# Altium schematic symbol library FS8205.Schlib: 1 symbol
Pins are listed as number, name and electrical type; pins without a type are passive.

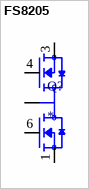
[diagram p0: symbol FS8205]

## FS8205
designator Q?
Dual N-Channel Enhancement Mode Power MOSFET SOT23-6 package; MP: FS8205; MF: Fortune Semiconductor; SnapEDA_Link: https://www.snapeda.com/parts/FS8205/Fortune+Semiconductor/view-part/?ref=snap; Package: Package; Check_prices: https://www.snapeda.com/parts/FS8205/Fortune+Semiconductor/view-part/?ref=eda; Price: None; Value: *; Availability: Not in stock
footprint SOT23-6
pins: 1 S1, 2 D12, 3 S2, 4 G2, 5 D12, 6 G1